# Altium footprint library PCB - SMD - Misc - SN74LVC2GU04DCKR.PcbLib: 1 footprints
Each footprint in its own frame and in the unit in brackets; x right, y up, seen from the top. Pads: shape width x height; smd on the part's side, far side on the other; paste and mask are expansions set on the pad; w line width, h text height; cw(c..) or ccw(c..) is an arc to the next point about the centre after c.
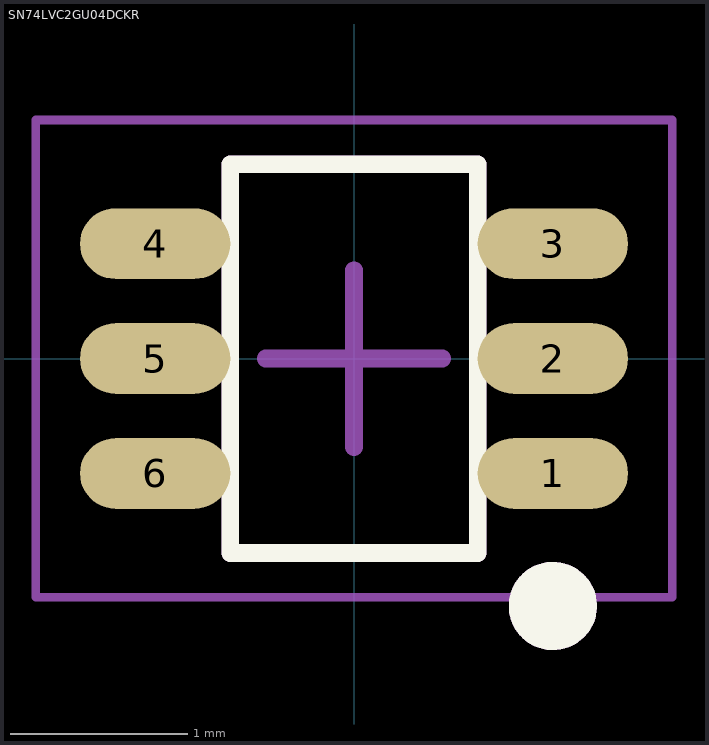
[diagram p0: the footprint, top view; thin cyan lines are the x and y axes]

## SN74LVC2GU04DCKR [mm] "0603 3-Pin Config Footprint"
height 1
pads (6):
  oval 0.85x0.4 smd: 1(1.125,-0.65) 2(1.125,0) 3(1.125,0.65) 4(-1.125,0.65) 5(-1.125,0) 6(-1.125,-0.65)
Top Overlay:
  circle w0.25: c1.125,-1.4 r0.125
  lines w0.1: -0.7,-1.1 0.7,-1.1 0.7,1.1 -0.7,1.1 -0.7,-1.1
Top Assembly:
  circle w0.25: c1.125,-1.4 r0.125
  lines w0.1: -0.7,-1.1 0.7,-1.1 0.7,1.1 -0.7,1.1 -0.7,-1.1
Top Courtyard:
  lines w0.05: -1.8,-1.35 1.8,-1.35 1.8,1.35 -1.8,1.35 -1.8,-1.35
Top Designator:
  text ".Designator" at -4.804,2.006 h1
Top Component Center:
  lines w0.1: -0.5,0 0.5,0 ; 0,-0.5 0,0.5
3D body: height 1.1, standoff 0.1, extent -0.7,-1.1 0.7,1.1